# EAGLE library part CY8C4245 (library mathrax-ic)
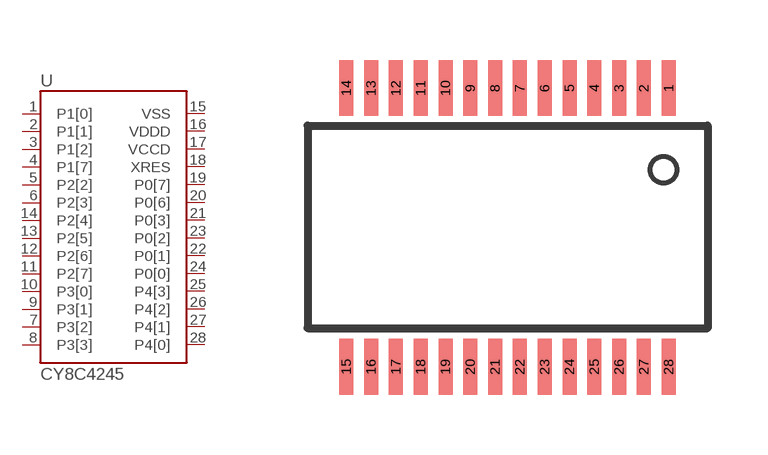
[diagram p3: symbol with the pads of 28PIN_SSOP; footprint 28PIN_SSOP]

Designator prefix -

## CY8C4245  [28PIN_SSOP]
1  P1[0]
2  P1[1]
3  P1[2]
4  P1[7]
5  P2[2]
6  P2[3]
7  P3[2]
8  P3[3]
9  P3[1]
10  P3[0]
11  P2[7]
12  P2[6]
13  P2[5]
14  P2[4]
15  VSS
16  VDDD
17  VCCD
18  XRES
19  P0[7]
20  P0[6]
21  P0[3]
22  P0[1]
23  P0[2]
24  P0[0]
25  P4[3]
26  P4[2]
27  P4[1]
28  P4[0]

## Footprint 28PIN_SSOP (pad centres in mm)
smd 0.35 x 1.4: 1 4.03,3.47; 2 3.41,3.47; 3 2.79,3.47; 4 2.17,3.47; 5 1.55,3.47; 6 0.93,3.47; 7 0.31,3.47; 8 -0.31,3.47; 9 -0.93,3.47; 10 -1.55,3.47; 11 -2.17,3.47; 12 -2.79,3.47; 13 -3.41,3.47; 14 -4.03,3.47; 15 -4.03,-3.496; 16 -3.41,-3.496; 17 -2.79,-3.496; 18 -2.17,-3.496; 19 -1.55,-3.496; 20 -0.93,-3.496; 21 -0.31,-3.496; 22 0.31,-3.496; 23 0.93,-3.496; 24 1.55,-3.496; 25 2.17,-3.496; 26 2.79,-3.496; 27 3.41,-3.496; 28 4.03,-3.496